# EAGLE library part PGA4311_DW_28 (library Texas Instruments)
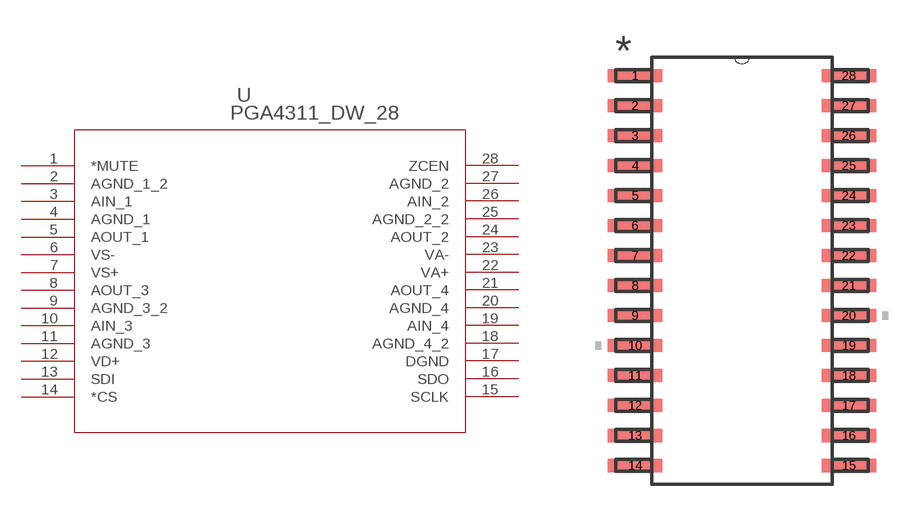
[diagram p14: symbol with the pads of DW28; footprint DW28]

Designator prefix U

## PGA4311_DW_28 (DATASHEETURL: http://www.ti.com/lit/gpn/PGA4311; DESCRIPTION: 4-Channel, +/-5V Audio Volume Control; FAMILY_NAME: VOLUME CONTROL; GENERIC_PART_NUMBER: PGA4311; INDUSTRY_STD_PKG_TYPE: SOIC; MANUFACTURER: Texas Instruments; MANUFACTURER_PART_NUMBER: pga4311_dw_28; PACKAGE_DESIGNATOR: DW; PIN_COUNT: 28; VENDOR: Texas Instruments)  [DW28]
1  *MUTE  in
2  AGND_1_2  pwr
3  AIN_1  in
4  AGND_1  pwr
5  AOUT_1  out
6  VS-  pwr
7  VS+  pwr
8  AOUT_3  out
9  AGND_3_2  pwr
10  AIN_3  in
11  AGND_3  pwr
12  VD+  pwr
13  SDI  in
14  *CS  in
15  SCLK  in
16  SDO  out
17  DGND  pwr
18  AGND_4_2  pwr
19  AIN_4  in
20  AGND_4  pwr
21  AOUT_4  out
22  VA+  pwr
23  VA-  pwr
24  AOUT_2  out
25  AGND_2_2  pwr
26  AIN_2  in
27  AGND_2  pwr
28  ZCEN  pas

## Footprint DW28 (pad centres in mm)
smd 2.311 x 0.559: 1 -4.521,8.255; 2 -4.521,6.985; 3 -4.521,5.715; 4 -4.521,4.445; 5 -4.521,3.175; 6 -4.521,1.905; 7 -4.521,0.635; 8 -4.521,-0.635; 9 -4.521,-1.905; 10 -4.521,-3.175; 11 -4.521,-4.445; 12 -4.521,-5.715; 13 -4.521,-6.985; 14 -4.521,-8.255; 15 4.521,-8.255; 16 4.521,-6.985; 17 4.521,-5.715; 18 4.521,-4.445; 19 4.521,-3.175; 20 4.521,-1.905; 21 4.521,-0.635; 22 4.521,0.635; 23 4.521,1.905; 24 4.521,3.175; 25 4.521,4.445; 26 4.521,5.715; 27 4.521,6.985; 28 4.521,8.255